# EAGLE library part FTSH-108-05-F-DV-A (library FTSH-108-05-F-DV-A)
16 Position, High Reliability Header Strips, 0.050" pitch Source: Datasheet <http://suddendocs.samtec.com/prints/ftsh-1xx-xx-xxx-dv-xxx-xxx-mkt.pdf>
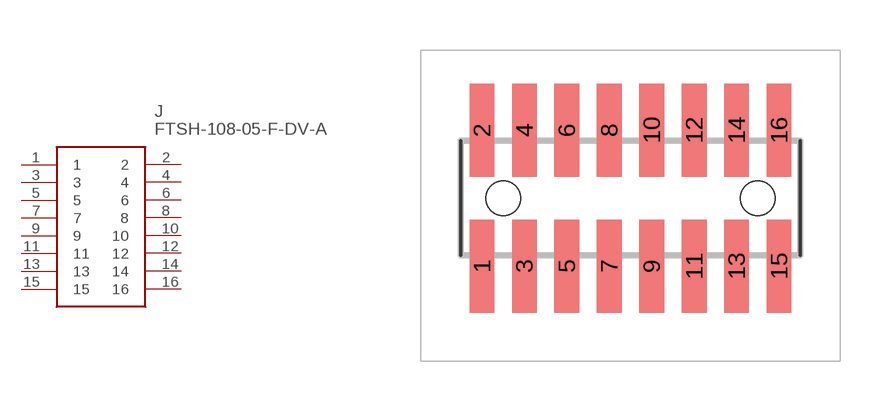
[diagram p0: symbol with the pads of FTSH-108-XX-YYY-DV-A; footprint FTSH-108-XX-YYY-DV-A]

Designator prefix J

## FTSH-108-05-F-DV-A (ARROW_PART_NUMBER: FTSH-108-05-F-DV-A; ARROW_PRICE-STOCK: https://www.arrow.com/en/products/ftsh-108-05-f-dv-a/samtec; DESCRIPTION: 16 Position, High Reliability Header Strips, 0.050&quot; pitch; HEIGHT: mm; MANUFACTURER_NAME: SAMTEC; MANUFACTURER_PART_NUMBER: FTSH-108-05-F-DV-A; MOUSER_PART_NUMBER: 200-FTSH10805FDVA; MOUSER_PRICE-STOCK: https://www.mouser.co.uk/ProductDetail/Samtec/FTSH-108-05-F-DV-A?qs=PB6%2FjmICvI1admAR1gVHNg%3D%3D)  [FTSH-108-XX-YYY-DV-A]
1  1
2  2
3  3
4  4
5  5
6  6
7  7
8  8
9  9
10  10
11  11
12  12
13  13
14  14
15  15
16  16

## Footprint FTSH-108-XX-YYY-DV-A (pad centres in mm)
FTSH-108-XX-YYY-DV-A
smd 0.74 x 2.79: 1 -4.445,-2.035; 2 -4.445,2.035; 3 -3.175,-2.035; 4 -3.175,2.035; 5 -1.905,-2.035; 6 -1.905,2.035; 7 -0.635,-2.035; 8 -0.635,2.035; 9 0.635,-2.035; 10 0.635,2.035; 11 1.905,-2.035; 12 1.905,2.035; 13 3.175,-2.035; 14 3.175,2.035; 15 4.445,-2.035; 16 4.445,2.035
hole 1.02 at -3.81,0
hole 1.02 at 3.81,0